# EAGLE library part MAX17502EATB+T (library MAX17502EATB+T)
MAXIM INTEGRATED PRODUCTS - MAX17502EATB+T - DC/DC CONV, SYNC BUCK, 600KHZ, 125DEG C Source: Datasheet <https://datasheets.maximintegrated.com/en/ds/MAX17502.pdf>
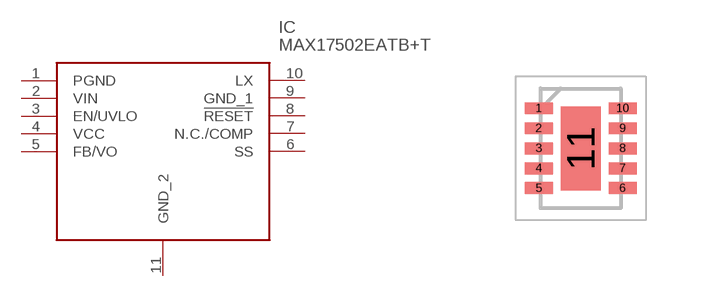
[diagram p0: symbol with the pads of SON50P200X300X80-11N; footprint SON50P200X300X80-11N]

Designator prefix IC

## MAX17502EATB+T (Description: MAXIM INTEGRATED PRODUCTS - MAX17502EATB+T - DC/DC CONV, SYNC BUCK, 600KHZ, 125DEG C; Height: 0.8mm; Manufacturer_Name: Maxim Integrated; Manufacturer_Part_Number: MAX17502EATB+T; Mouser_Part_Number: 700-MAX17502EATB+T; Mouser_Price-Stock: https://www.mouser.com/Search/Refine.aspx?Keyword=700-MAX17502EATB%2BT)  [SON50P200X300X80-11N]
1  PGND
2  VIN
3  EN/UVLO
4  VCC
5  FB/VO
6  SS
7  N.C./COMP
8  !RESET
9  GND_1
10  LX
11  GND_2

## Footprint SON50P200X300X80-11N (pad centres in mm)
10 TDFN
smd 0.7 x 0.3: 1 -1.05,1; 2 -1.05,0.5; 3 -1.05,0; 4 -1.05,-0.5; 5 -1.05,-1; 6 1.05,-1; 7 1.05,-0.5; 8 1.05,0; 9 1.05,0.5; 10 1.05,1
smd 1 x 2.1: 11 0,0